# EAGLE library part BETTER-ARDUINO-MICRO (library Jordi)
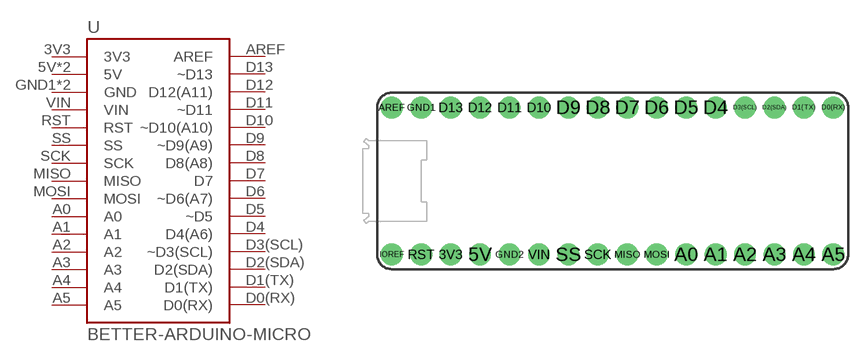
[diagram p17: symbol with the pads of BETTER-ARDUINO-MICRO; footprint BETTER-ARDUINO-MICRO]

Designator prefix U

## BETTER-ARDUINO-MICRO  [BETTER-ARDUINO-MICRO]
3V3  3V3  pwr
5V  5V  pwr
A0  A0
A1  A1
A2  A2
A3  A3
A4  A4
A5  A5
AREF  AREF  in
D0(RX)  D0(RX)
D1(TX)  D1(TX)
D2(SDA)  D2(SDA)
D3(SCL)  ~D3(SCL)
D4  D4(A6)
D5  ~D5
D6  ~D6(A7)
D7  D7
D8  D8(A8)
D9  ~D9(A9)
D10  ~D10(A10)
D11  ~D11
D12  D12(A11)
D13  ~D13
GND1  GND  pwr
GND2  GND  pwr
IOREF  5V  pwr
MISO  MISO
MOSI  MOSI
RST  RST  oc
SCK  SCK
SS  SS
VIN  VIN  pwr

## Footprint BETTER-ARDUINO-MICRO (pad centres in mm)
drill 1.016 pad 1.88: 3V3 -13.97,-6.35; 5V -11.43,-6.35; A0 6.35,-6.35; A1 8.89,-6.35; A2 11.43,-6.35; A3 13.97,-6.35; A4 16.51,-6.35; A5 19.05,-6.35; AREF -19.05,6.35; D0(RX) 19.05,6.35; D1(TX) 16.51,6.35; D2(SDA) 13.97,6.35; D3(SCL) 11.43,6.35; D4 8.89,6.35; D5 6.35,6.35; D6 3.81,6.35; D7 1.27,6.35; D8 -1.27,6.35; D9 -3.81,6.35; D10 -6.35,6.35; D11 -8.89,6.35; D12 -11.43,6.35; D13 -13.97,6.35; GND1 -16.51,6.35; GND2 -8.89,-6.35; IOREF -19.05,-6.35; MISO 1.27,-6.35; MOSI 3.81,-6.35; RST -16.51,-6.35; SCK -1.27,-6.35; SS -3.81,-6.35; VIN -6.35,-6.35